# Altium integrated library 74HC595N.IntLib: 1 symbol
Pins are listed as number, name and electrical type; pins without a type are passive.

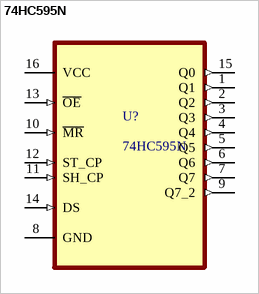
[diagram p0: symbol 74HC595N]

## 74HC595N
designator U?
Shift Shift Register 1 Element 8 Bit 16-DIP / | Designed By @Alixahedi |; MP: 74HC595N,112; MF: NXP USA; DigiKey-Purchase-URL: https://snapeda.com/shop?store=DigiKey&id=32067; Value: *; Package: DIP-16 NXP Semiconductors; Price: None; SnapEDA_Link: https://www.snapeda.com/parts/74HC595N,112/NXP%20USA%20Inc./view-part/32067/?ref=snap; Availability: Unavailable
footprint DIP254P7-62X420-16
pins: 1 Q1 (out), 2 Q2 (out), 3 Q3 (out), 4 Q4 (out), 5 Q5 (out), 6 Q6 (out), 7 Q7 (out), 8 GND, 9 Q7_2 (out), 10 ~{MR} (in), 11 SH_CP (in), 12 ST_CP (in), 13 ~{OE} (in), 14 DS (in), 15 Q0 (out), 16 VCC (power)